# EAGLE library part NJW4131GM1 (library NJW4131GM1)
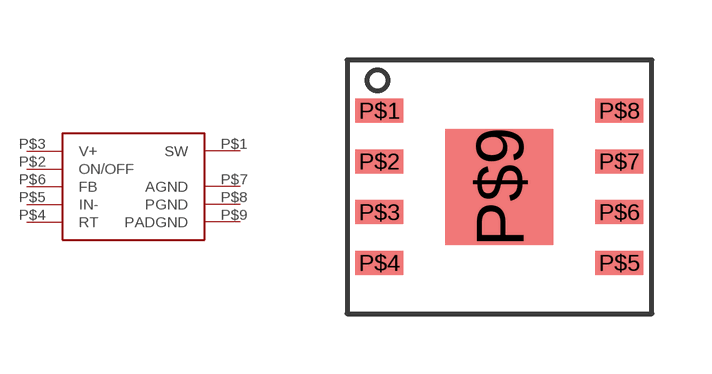
[diagram p0: symbol with the pads of NJW4131; footprint NJW4131]

Designator prefix -

## NJW4131GM1  [NJW4131]
P$1  SW
P$2  ON/OFF
P$3  V+
P$4  RT
P$5  IN-
P$6  FB
P$7  AGND
P$8  PGND
P$9  PADGND

## Footprint NJW4131 (pad centres in mm)
smd 1.2 x 0.6: P$1 -3,2.54; P$2 -3,1.27; P$3 -3,0; P$4 -3,-1.27; P$5 3,-1.27; P$6 3,0; P$7 3,1.27; P$8 3,2.54
smd 2.7 x 2.9: P$9 0,0.635